# Altium integrated library Linear Technology Power Management Power Control.IntLib: 661 symbols (part 37 of 43)
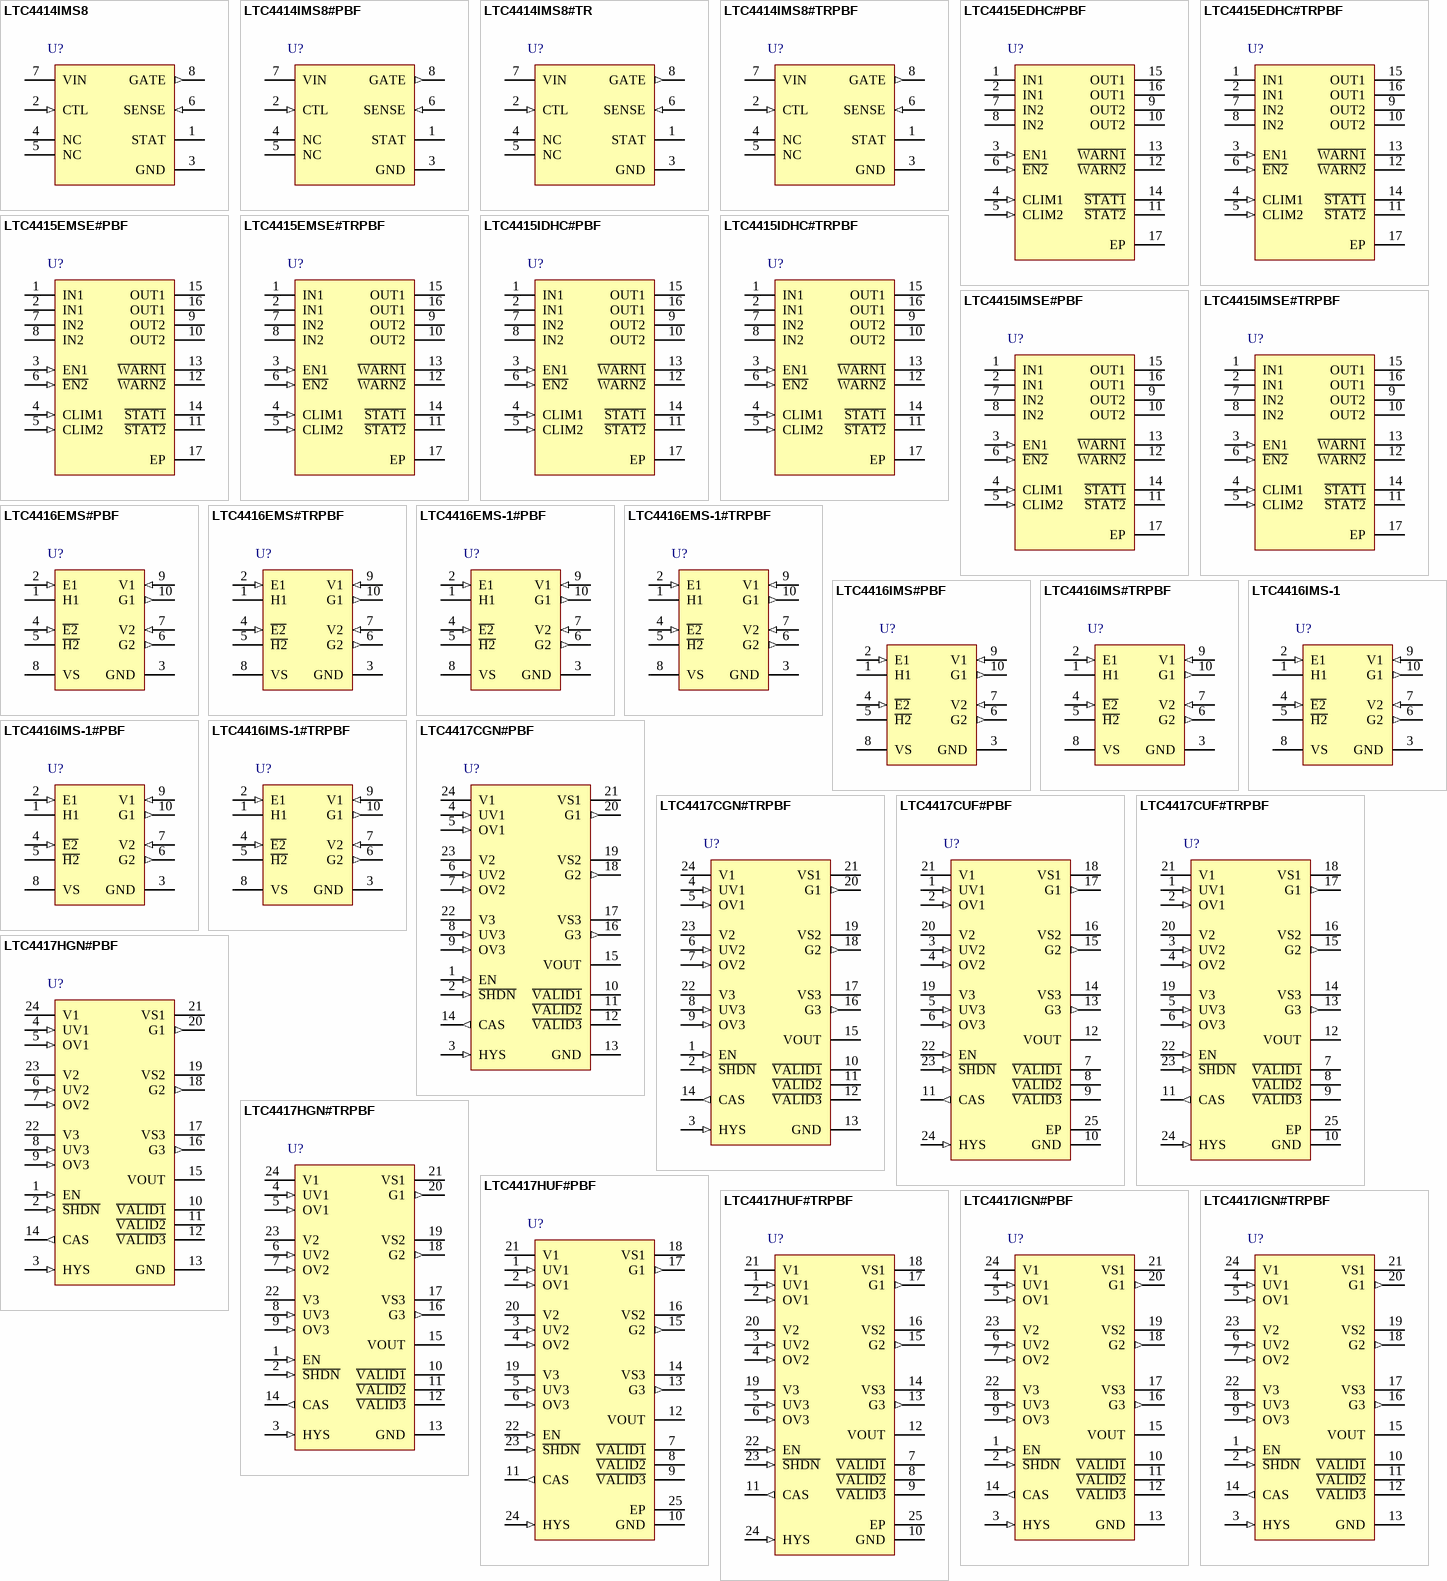
[diagram p55: symbols LTC4414IMS8 to LTC4417IGN#TRPBF]

## LTC4415IDHC#TRPBF
designator U?
Dual 4 A Ideal Diode with Adjustable Current Limit, Imon Output, Overcurrent Warning, Thermal Warning, 1.7 to 5.5 V Vin, 16-pin DFN (DHC-16_A), -40 to 125 degC, Pb-Free, Tape and Reel; Manufacturer: Linear Technology; PartNumber: LTC4415IDHC#TRPBF; Ideal Diode: Dual, Internal, P-Channel; DatasheetVersion: Rev. Ø; PackageVersion: Rev. Ø; PackageReference: DHC-16; PackageDescription: 16-Pin Plastic DFN, Body 5 x 3 mm, Pitch 0.5 mm; Supplier 1: Digi-Key; Supplier Part Number 1: LTC4415IDHC#TRPBF-ND; Supplier 2: Newark; Supplier Part Number 2: 78T3431; Packing: Tape and Reel; RoHS: TRUE; Mounting Technology: Surface Mount; Code_JEDEC: MO-229; ComponentLink1Description: Manufacturer URL; ComponentLink1URL: http://www.linear.com/; ComponentLink2Description: Datasheet; ComponentLink2URL: http://cds.linear.com/docs/en/datasheet/4415fa.pdf; ComponentLink3Description: Package Specification; ComponentLink3URL: http://cds.linear.com/docs/en/datasheet/4415fa.pdf
footprint LT-DHC-16_A_V (DHC-16_A, 16-Leads, Body 5x3mm, Pitch 0.5mm, Thermal Pad 4.4x1.65mm)
pins: 1 IN1 (power) "Diode 1 Anode and Positive Power Supply for LTC4415. Bypass IN1 with a ceramic capacitor of at least 4.7uF. Pins 1 and 2 are fused together on the package. These pins can be grounded when not used.", 2 IN1 (power) "Diode 1 Anode and Positive Power Supply for LTC4415. Bypass IN1 with a ceramic capacitor of at least 4.7uF. Pins 1 and 2 are fused together on the package. These pins can be grounded when not used.", 3 EN1 (in) "Enable Input for Diode 1. A high signal greater than VENTH enables Diode 1.", 4 CLIM1 (in) "Current Limit Adjust and Monitor Pin for Diode 1. Connect a resistor from CLIM1 to ground to set the current limit; the diode 1 current can then be monitored by measuring the voltage on CLIM1 pin. A fixed 6A internal current (See Datasheet)", 5 CLIM2 (in) "Current Limit Adjust and Monitor Pin for Diode 2. Connect a resistor from CLIM2 to ground to set the current limit; the diode 2 current can then be monitored by measuring the voltage on CLIM2 pin. A fixed 6A internal current (See Datasheet)", 6 ~{EN2} (in) "Enable Input for Diode 2. A low signal less than VENTH enables Diode 2.", 7 IN2 (power) "Diode 2 Anode and Positive Power Supply for LTC4415. Bypass IN2 with a ceramic capacitor of at least 4.7uF. Pins 7 and 8 are fused together on the package. These pins can be grounded when not used.", 8 IN2 (power) "Diode 2 Anode and Positive Power Supply for LTC4415. Bypass IN2 with a ceramic capacitor of at least 4.7uF. Pins 7 and 8 are fused together on the package. These pins can be grounded when not used.", 9 OUT2 (power) "Diode 2 Cathode and Output of LTC4415. Bypass OUT2 with a ceramic capacitor of at least 4.7uF. Pins 9 and 10 are fused together on the package. Leave these pins open when not used.", 10 OUT2 (power) "Diode 2 Cathode and Output of LTC4415. Bypass OUT2 with a ceramic capacitor of at least 4.7uF. Pins 9 and 10 are fused together on the package. Leave these pins open when not used.", 11 ~{STAT2} (hiz) "Status Indicator for Diode 2. Open-drain output pulls down during forward diode conduction. This pin can be left open or grounded when not used.", 12 ~{WARN2} (oc) "Overcurrent and Thermal Warning Indicator for Diode 2. Open-drain output pulls down when diode 2 current exceeds its current limit or die temperature is close to thermal shutdown.", 13 ~{WARN1} (oc) "Overcurrent and Thermal Warning Indicator for Diode 1. Open-drain output pulls down when diode 1 current exceeds its current limit or die temperature is close to thermal shutdown.", 14 ~{STAT1} (hiz) "Status Indicator for Diode 1. Open-drain output pulls down during forward diode conduction. This pin can be left open or grounded when not used.", 15 OUT1 (power) "Diode 1 Cathode and Output of LTC4415. Bypass OUT1 with a ceramic capacitor of at least 4.7uF. Pins 15 and 16 are fused together on the package. Leave these pins open when not used.", 16 OUT1 (power) "Diode 1 Cathode and Output of LTC4415. Bypass OUT1 with a ceramic capacitor of at least 4.7uF. Pins 15 and 16 are fused together on the package. Leave these pins open when not used.", 17 EP (power) "Device Ground. The exposed pad must be soldered to PCB ground to provide both electrical connection to ground and good thermal conductivity to PCB."

## LTC4415IMSE#PBF
designator U?
Dual 4 A Ideal Diode with Adjustable Current Limit, Imon Output, Overcurrent Warning, Thermal Warning, 1.7 to 5.5 V Vin, 16-pin SOP (MSE-16-EDP), -40 to 125 degC, Pb-Free; Manufacturer: Linear Technology; PartNumber: LTC4415IMSE#PBF; Ideal Diode: Dual, Internal, P-Channel; DatasheetVersion: Rev. Ø; PackageVersion: Rev. F, 05/2013; PackageReference: MSE-16; PackageDescription: 16-Pin Plastic MSOP, Exposed Die Pad, Body 4.039 x 3 mm, Pitch 0.5 mm; Supplier 1: Digi-Key; Supplier Part Number 1: LTC4415IMSE#PBF-ND; Supplier 2: Newark; Supplier Part Number 2: 78T3432; RoHS: TRUE; Mounting Technology: Surface Mount; ComponentLink1Description: Manufacturer URL; ComponentLink1URL: http://www.linear.com/; ComponentLink2Description: Datasheet; ComponentLink2URL: http://cds.linear.com/docs/en/datasheet/4415fa.pdf; ComponentLink3Description: Package Specification; ComponentLink3URL: http://cds.linear.com/docs/en/packaging/05081667_F_MSE16.pdf
footprint LT-MSE-16-EDP_N (SOP, 16-Leads, Body 4.1x3.1mm, Pitch 0.5mm, Thermal Pad 2.95x1.76mm, IPC Medium Density)
footprint LT-MSE-16-EDP_L (SOP, 16-Leads, Body 4.1x3.1mm, Pitch 0.5mm, Thermal Pad 2.95x1.76mm, IPC High Density)
footprint LT-MSE-16-EDP_M (SOP, 16-Leads, Body 4.1x3.1mm, Pitch 0.5mm, Thermal Pad 2.95x1.76mm, IPC Low Density)
pins: 1 IN1 (power) "Diode 1 Anode and Positive Power Supply for LTC4415. Bypass IN1 with a ceramic capacitor of at least 4.7uF. Pins 1 and 2 are fused together on the package. These pins can be grounded when not used.", 2 IN1 (power) "Diode 1 Anode and Positive Power Supply for LTC4415. Bypass IN1 with a ceramic capacitor of at least 4.7uF. Pins 1 and 2 are fused together on the package. These pins can be grounded when not used.", 3 EN1 (in) "Enable Input for Diode 1. A high signal greater than VENTH enables Diode 1.", 4 CLIM1 (in) "Current Limit Adjust and Monitor Pin for Diode 1. Connect a resistor from CLIM1 to ground to set the current limit; the diode 1 current can then be monitored by measuring the voltage on CLIM1 pin. A fixed 6A internal current (See Datasheet)", 5 CLIM2 (in) "Current Limit Adjust and Monitor Pin for Diode 2. Connect a resistor from CLIM2 to ground to set the current limit; the diode 2 current can then be monitored by measuring the voltage on CLIM2 pin. A fixed 6A internal current (See Datasheet)", 6 ~{EN2} (in) "Enable Input for Diode 2. A low signal less than VENTH enables Diode 2.", 7 IN2 (power) "Diode 2 Anode and Positive Power Supply for LTC4415. Bypass IN2 with a ceramic capacitor of at least 4.7uF. Pins 7 and 8 are fused together on the package. These pins can be grounded when not used.", 8 IN2 (power) "Diode 2 Anode and Positive Power Supply for LTC4415. Bypass IN2 with a ceramic capacitor of at least 4.7uF. Pins 7 and 8 are fused together on the package. These pins can be grounded when not used.", 9 OUT2 (power) "Diode 2 Cathode and Output of LTC4415. Bypass OUT2 with a ceramic capacitor of at least 4.7uF. Pins 9 and 10 are fused together on the package. Leave these pins open when not used.", 10 OUT2 (power) "Diode 2 Cathode and Output of LTC4415. Bypass OUT2 with a ceramic capacitor of at least 4.7uF. Pins 9 and 10 are fused together on the package. Leave these pins open when not used.", 11 ~{STAT2} (hiz) "Status Indicator for Diode 2. Open-drain output pulls down during forward diode conduction. This pin can be left open or grounded when not used.", 12 ~{WARN2} (oc) "Overcurrent and Thermal Warning Indicator for Diode 2. Open-drain output pulls down when diode 2 current exceeds its current limit or die temperature is close to thermal shutdown.", 13 ~{WARN1} (oc) "Overcurrent and Thermal Warning Indicator for Diode 1. Open-drain output pulls down when diode 1 current exceeds its current limit or die temperature is close to thermal shutdown.", 14 ~{STAT1} (hiz) "Status Indicator for Diode 1. Open-drain output pulls down during forward diode conduction. This pin can be left open or grounded when not used.", 15 OUT1 (power) "Diode 1 Cathode and Output of LTC4415. Bypass OUT1 with a ceramic capacitor of at least 4.7uF. Pins 15 and 16 are fused together on the package. Leave these pins open when not used.", 16 OUT1 (power) "Diode 1 Cathode and Output of LTC4415. Bypass OUT1 with a ceramic capacitor of at least 4.7uF. Pins 15 and 16 are fused together on the package. Leave these pins open when not used.", 17 EP (power) "Device Ground. The exposed pad must be soldered to PCB ground to provide both electrical connection to ground and good thermal conductivity to PCB."

## LTC4415IMSE#TRPBF
designator U?
Dual 4 A Ideal Diode with Adjustable Current Limit, Imon Output, Overcurrent Warning, Thermal Warning, 1.7 to 5.5 V Vin, 16-pin SOP (MSE-16-EDP), -40 to 125 degC, Pb-Free, Tape and Reel; Manufacturer: Linear Technology; PartNumber: LTC4415IMSE#TRPBF; Ideal Diode: Dual, Internal, P-Channel; DatasheetVersion: Rev. Ø; PackageVersion: Rev. F, 05/2013; PackageReference: MSE-16; PackageDescription: 16-Pin Plastic MSOP, Exposed Die Pad, Body 4.039 x 3 mm, Pitch 0.5 mm; Supplier 1: Digi-Key; Supplier Part Number 1: LTC4415IMSE#TRPBF-ND; Supplier 2: Newark; Supplier Part Number 2: 78T3433; Packing: Tape and Reel; RoHS: TRUE; Mounting Technology: Surface Mount; ComponentLink1Description: Manufacturer URL; ComponentLink1URL: http://www.linear.com/; ComponentLink2Description: Datasheet; ComponentLink2URL: http://cds.linear.com/docs/en/datasheet/4415fa.pdf; ComponentLink3Description: Package Specification; ComponentLink3URL: http://cds.linear.com/docs/en/packaging/05081667_F_MSE16.pdf
footprint LT-MSE-16-EDP_N (SOP, 16-Leads, Body 4.1x3.1mm, Pitch 0.5mm, Thermal Pad 2.95x1.76mm, IPC Medium Density)
footprint LT-MSE-16-EDP_L (SOP, 16-Leads, Body 4.1x3.1mm, Pitch 0.5mm, Thermal Pad 2.95x1.76mm, IPC High Density)
footprint LT-MSE-16-EDP_M (SOP, 16-Leads, Body 4.1x3.1mm, Pitch 0.5mm, Thermal Pad 2.95x1.76mm, IPC Low Density)
pins: 1 IN1 (power) "Diode 1 Anode and Positive Power Supply for LTC4415. Bypass IN1 with a ceramic capacitor of at least 4.7uF. Pins 1 and 2 are fused together on the package. These pins can be grounded when not used.", 2 IN1 (power) "Diode 1 Anode and Positive Power Supply for LTC4415. Bypass IN1 with a ceramic capacitor of at least 4.7uF. Pins 1 and 2 are fused together on the package. These pins can be grounded when not used.", 3 EN1 (in) "Enable Input for Diode 1. A high signal greater than VENTH enables Diode 1.", 4 CLIM1 (in) "Current Limit Adjust and Monitor Pin for Diode 1. Connect a resistor from CLIM1 to ground to set the current limit; the diode 1 current can then be monitored by measuring the voltage on CLIM1 pin. A fixed 6A internal current (See Datasheet)", 5 CLIM2 (in) "Current Limit Adjust and Monitor Pin for Diode 2. Connect a resistor from CLIM2 to ground to set the current limit; the diode 2 current can then be monitored by measuring the voltage on CLIM2 pin. A fixed 6A internal current (See Datasheet)", 6 ~{EN2} (in) "Enable Input for Diode 2. A low signal less than VENTH enables Diode 2.", 7 IN2 (power) "Diode 2 Anode and Positive Power Supply for LTC4415. Bypass IN2 with a ceramic capacitor of at least 4.7uF. Pins 7 and 8 are fused together on the package. These pins can be grounded when not used.", 8 IN2 (power) "Diode 2 Anode and Positive Power Supply for LTC4415. Bypass IN2 with a ceramic capacitor of at least 4.7uF. Pins 7 and 8 are fused together on the package. These pins can be grounded when not used.", 9 OUT2 (power) "Diode 2 Cathode and Output of LTC4415. Bypass OUT2 with a ceramic capacitor of at least 4.7uF. Pins 9 and 10 are fused together on the package. Leave these pins open when not used.", 10 OUT2 (power) "Diode 2 Cathode and Output of LTC4415. Bypass OUT2 with a ceramic capacitor of at least 4.7uF. Pins 9 and 10 are fused together on the package. Leave these pins open when not used.", 11 ~{STAT2} (hiz) "Status Indicator for Diode 2. Open-drain output pulls down during forward diode conduction. This pin can be left open or grounded when not used.", 12 ~{WARN2} (oc) "Overcurrent and Thermal Warning Indicator for Diode 2. Open-drain output pulls down when diode 2 current exceeds its current limit or die temperature is close to thermal shutdown.", 13 ~{WARN1} (oc) "Overcurrent and Thermal Warning Indicator for Diode 1. Open-drain output pulls down when diode 1 current exceeds its current limit or die temperature is close to thermal shutdown.", 14 ~{STAT1} (hiz) "Status Indicator for Diode 1. Open-drain output pulls down during forward diode conduction. This pin can be left open or grounded when not used.", 15 OUT1 (power) "Diode 1 Cathode and Output of LTC4415. Bypass OUT1 with a ceramic capacitor of at least 4.7uF. Pins 15 and 16 are fused together on the package. Leave these pins open when not used.", 16 OUT1 (power) "Diode 1 Cathode and Output of LTC4415. Bypass OUT1 with a ceramic capacitor of at least 4.7uF. Pins 15 and 16 are fused together on the package. Leave these pins open when not used.", 17 EP (power) "Device Ground. The exposed pad must be soldered to PCB ground to provide both electrical connection to ground and good thermal conductivity to PCB."

## LTC4416EMS#PBF
designator U?
Low Loss Dual PowerPath Controller for Large PFET, 3.6 to 36 V Vin, 10-pin SOP (MS-10), -40 to 85 degC, Pb-Free; Manufacturer: Linear Technology; PartNumber: LTC4416EMS#PBF; Ideal Diode: Dual, External, P-Channel; DatasheetVersion: Rev. A; PackageVersion: Rev. E, 06/2010; PackageReference: MS-10; PackageDescription: 10-Pin Plastic MSOP, Body 3 x 3 mm, Pitch 0.5 mm; Supplier 1: Digi-Key; Supplier Part Number 1: LTC4416EMS#PBF-ND; Supplier 2: Newark; Supplier Part Number 2: 56M9542; RoHS: TRUE; Mounting Technology: Surface Mount; ComponentLink1Description: Manufacturer URL; ComponentLink1URL: http://www.linear.com/; ComponentLink2Description: Datasheet; ComponentLink2URL: http://cds.linear.com/docs/en/datasheet/4416fa.pdf; ComponentLink3Description: Package Specification; ComponentLink3URL: http://cds.linear.com/docs/en/packaging/05081661_F_MS.pdf
footprint LT-MS-10_N (SOP, 10-Leads, Body 3.1x3.1mm, Pitch 0.5mm, IPC Medium Density)
footprint LT-MS-10_L (SOP, 10-Leads, Body 3.1x3.1mm, Pitch 0.5mm, IPC High Density)
footprint LT-MS-10_M (SOP, 10-Leads, Body 3.1x3.1mm, Pitch 0.5mm, IPC Low Density)
pins: 1 H1 (hiz) "Open-Drain Comparator Output of the E1 Pin. If E1 > VREF, the H1 pin will go high impedance, otherwise the pin will be grounded. The maximum voltage permitted on this pin is 7V. This pin provides support for setting up (See Datasheet)", 2 E1 (in) "LTC4416 Comparator Enable Input. A high signal greater than VREF will enable the V1 path. The ideal diode action will then determine if the V1 path should turn on by controlling any PFET(s) connected to the G1 pin. If the E1 (See Datasheet)", 3 GND (power) "Ground. This pin provides a power return path for all the internal circuits.", 4 ~{E2} (in) "LTC4416 Comparator Enable Input. A low signal less than VREF will enable the V2 path. The ideal diode action will then determine if the V2 path should turn on by controlling any PFET(s) connected to the G2 pin. If the E\2\ (See Datasheet)", 5 ~{H2} (hiz) "Open-Drain Comparator Output of the E\2\ Pin. If E2 > VREF, the H\2\ pin will go high impedance, otherwise the pin will be grounded. The maximum voltage permitted on this pin is 7V. This pin provides support for setting up (See Datasheet)", 6 G2 (out) "Second P-Channel MOSFET Power Switch Gate Drive Pin. This pin is directed by the second power controller to maintain a forward regulation voltage (VFR) of 25mV between the V2 and VS pins when V2 is greater than VS. When V2 (See Datasheet)", 7 V2 (in) "Second Input Supply Voltage. Supplies power to the second power controller and the band-gap reference. V2 is one of the two voltage sense inputs to the second internal power controller (the other input to the second internal (See Datasheet)", 8 VS (power) "Power Sense Input Pin. Supplies power to the internal circuitry of both the first and second power controller and the band-gap reference. This pin is also a voltage sense input to both internal analog controllers (the other (See Datasheet)", 9 V1 (in) "First Input Supply Voltage. Supplies power to the first power controller and the band-gap reference. V1 is one of the two voltage sense inputs to the first internal power controller (the other input to the first internal (See Datasheet)", 10 G1 (out) "First P-Channel MOSFET Power Switch Gate Drive Pin. This pin is directed by the first power controller to maintain a forward regulation voltage (VFR) of 25mV between the V1 and VS pins when V1 is greater than VS. When V1 is (See Datasheet)"

## LTC4416EMS#TRPBF
designator U?
Low Loss Dual PowerPath Controller for Large PFET, 3.6 to 36 V Vin, 10-pin SOP (MS-10), -40 to 85 degC, Pb-Free, Tape and Reel; Manufacturer: Linear Technology; PartNumber: LTC4416EMS#TRPBF; Ideal Diode: Dual, External, P-Channel; DatasheetVersion: Rev. A; PackageVersion: Rev. E, 06/2010; PackageReference: MS-10; PackageDescription: 10-Pin Plastic MSOP, Body 3 x 3 mm, Pitch 0.5 mm; Supplier 1: Digi-Key; Supplier Part Number 1: LTC4416EMS#TRPBF-ND; Packing: Tape and Reel; RoHS: TRUE; Mounting Technology: Surface Mount; ComponentLink1Description: Manufacturer URL; ComponentLink1URL: http://www.linear.com/; ComponentLink2Description: Datasheet; ComponentLink2URL: http://cds.linear.com/docs/en/datasheet/4416fa.pdf; ComponentLink3Description: Package Specification; ComponentLink3URL: http://cds.linear.com/docs/en/packaging/05081661_F_MS.pdf
footprint LT-MS-10_N (SOP, 10-Leads, Body 3.1x3.1mm, Pitch 0.5mm, IPC Medium Density)
footprint LT-MS-10_L (SOP, 10-Leads, Body 3.1x3.1mm, Pitch 0.5mm, IPC High Density)
footprint LT-MS-10_M (SOP, 10-Leads, Body 3.1x3.1mm, Pitch 0.5mm, IPC Low Density)
pins: 1 H1 (hiz) "Open-Drain Comparator Output of the E1 Pin. If E1 > VREF, the H1 pin will go high impedance, otherwise the pin will be grounded. The maximum voltage permitted on this pin is 7V. This pin provides support for setting up (See Datasheet)", 2 E1 (in) "LTC4416 Comparator Enable Input. A high signal greater than VREF will enable the V1 path. The ideal diode action will then determine if the V1 path should turn on by controlling any PFET(s) connected to the G1 pin. If the E1 (See Datasheet)", 3 GND (power) "Ground. This pin provides a power return path for all the internal circuits.", 4 ~{E2} (in) "LTC4416 Comparator Enable Input. A low signal less than VREF will enable the V2 path. The ideal diode action will then determine if the V2 path should turn on by controlling any PFET(s) connected to the G2 pin. If the E\2\ (See Datasheet)", 5 ~{H2} (hiz) "Open-Drain Comparator Output of the E\2\ Pin. If E2 > VREF, the H\2\ pin will go high impedance, otherwise the pin will be grounded. The maximum voltage permitted on this pin is 7V. This pin provides support for setting up (See Datasheet)", 6 G2 (out) "Second P-Channel MOSFET Power Switch Gate Drive Pin. This pin is directed by the second power controller to maintain a forward regulation voltage (VFR) of 25mV between the V2 and VS pins when V2 is greater than VS. When V2 (See Datasheet)", 7 V2 (in) "Second Input Supply Voltage. Supplies power to the second power controller and the band-gap reference. V2 is one of the two voltage sense inputs to the second internal power controller (the other input to the second internal (See Datasheet)", 8 VS (power) "Power Sense Input Pin. Supplies power to the internal circuitry of both the first and second power controller and the band-gap reference. This pin is also a voltage sense input to both internal analog controllers (the other (See Datasheet)", 9 V1 (in) "First Input Supply Voltage. Supplies power to the first power controller and the band-gap reference. V1 is one of the two voltage sense inputs to the first internal power controller (the other input to the first internal (See Datasheet)", 10 G1 (out) "First P-Channel MOSFET Power Switch Gate Drive Pin. This pin is directed by the first power controller to maintain a forward regulation voltage (VFR) of 25mV between the V1 and VS pins when V1 is greater than VS. When V1 is (See Datasheet)"

## LTC4416EMS-1#PBF
designator U?
Low Loss Dual PowerPath Controller for Large PFET, 3.6 to 36 V Vin, 10-pin SOP (MS-10), -40 to 85 degC, Pb-Free; Manufacturer: Linear Technology; PartNumber: LTC4416EMS-1#PBF; Ideal Diode: Dual, External, P-Channel; DatasheetVersion: Rev. A; PackageVersion: Rev. E, 06/2010; PackageReference: MS-10; PackageDescription: 10-Pin Plastic MSOP, Body 3 x 3 mm, Pitch 0.5 mm; Supplier 1: Digi-Key; Supplier Part Number 1: LTC4416EMS-1#PBF-ND; Supplier 2: Newark; Supplier Part Number 2: 56M9540; RoHS: TRUE; Mounting Technology: Surface Mount; ComponentLink1Description: Manufacturer URL; ComponentLink1URL: http://www.linear.com/; ComponentLink2Description: Datasheet; ComponentLink2URL: http://cds.linear.com/docs/en/datasheet/4416fa.pdf; ComponentLink3Description: Package Specification; ComponentLink3URL: http://cds.linear.com/docs/en/packaging/05081661_F_MS.pdf
footprint LT-MS-10_N (SOP, 10-Leads, Body 3.1x3.1mm, Pitch 0.5mm, IPC Medium Density)
footprint LT-MS-10_L (SOP, 10-Leads, Body 3.1x3.1mm, Pitch 0.5mm, IPC High Density)
footprint LT-MS-10_M (SOP, 10-Leads, Body 3.1x3.1mm, Pitch 0.5mm, IPC Low Density)
pins: 1 H1 (hiz) "Open-Drain Comparator Output of the E1 Pin. If E1 > VREF, the H1 pin will go high impedance, otherwise the pin will be grounded. The maximum voltage permitted on this pin is 7V. This pin provides support for setting up (See Datasheet)", 2 E1 (in) "LTC4416 Comparator Enable Input. A high signal greater than VREF will enable the V1 path. The ideal diode action will then determine if the V1 path should turn on by controlling any PFET(s) connected to the G1 pin. If the E1 (See Datasheet)", 3 GND (power) "Ground. This pin provides a power return path for all the internal circuits.", 4 ~{E2} (in) "LTC4416 Comparator Enable Input. A low signal less than VREF will enable the V2 path. The ideal diode action will then determine if the V2 path should turn on by controlling any PFET(s) connected to the G2 pin. If the E\2\ (See Datasheet)", 5 ~{H2} (hiz) "Open-Drain Comparator Output of the E\2\ Pin. If E2 > VREF, the H\2\ pin will go high impedance, otherwise the pin will be grounded. The maximum voltage permitted on this pin is 7V. This pin provides support for setting up (See Datasheet)", 6 G2 (out) "Second P-Channel MOSFET Power Switch Gate Drive Pin. This pin is directed by the second power controller to maintain a forward regulation voltage (VFR) of 25mV between the V2 and VS pins when V2 is greater than VS. When V2 (See Datasheet)", 7 V2 (in) "Second Input Supply Voltage. Supplies power to the second power controller and the band-gap reference. V2 is one of the two voltage sense inputs to the second internal power controller (the other input to the second internal (See Datasheet)", 8 VS (power) "Power Sense Input Pin. Supplies power to the internal circuitry of both the first and second power controller and the band-gap reference. This pin is also a voltage sense input to both internal analog controllers (the other (See Datasheet)", 9 V1 (in) "First Input Supply Voltage. Supplies power to the first power controller and the band-gap reference. V1 is one of the two voltage sense inputs to the first internal power controller (the other input to the first internal (See Datasheet)", 10 G1 (out) "First P-Channel MOSFET Power Switch Gate Drive Pin. This pin is directed by the first power controller to maintain a forward regulation voltage (VFR) of 25mV between the V1 and VS pins when V1 is greater than VS. When V1 is (See Datasheet)"

## LTC4416EMS-1#TRPBF
designator U?
Low Loss Dual PowerPath Controller for Large PFET, 3.6 to 36 V Vin, 10-pin SOP (MS-10), -40 to 85 degC, Pb-Free, Tape and Reel; Manufacturer: Linear Technology; PartNumber: LTC4416EMS-1#TRPBF; Ideal Diode: Dual, External, P-Channel; DatasheetVersion: Rev. A; PackageVersion: Rev. E, 06/2010; PackageReference: MS-10; PackageDescription: 10-Pin Plastic MSOP, Body 3 x 3 mm, Pitch 0.5 mm; Supplier 1: Digi-Key; Supplier Part Number 1: LTC4416EMS-1#TRPBF-ND; Supplier 2: Newark; Supplier Part Number 2: 56M9541; Packing: Tape and Reel; RoHS: TRUE; Mounting Technology: Surface Mount; ComponentLink1Description: Manufacturer URL; ComponentLink1URL: http://www.linear.com/; ComponentLink2Description: Datasheet; ComponentLink2URL: http://cds.linear.com/docs/en/datasheet/4416fa.pdf; ComponentLink3Description: Package Specification; ComponentLink3URL: http://cds.linear.com/docs/en/packaging/05081661_F_MS.pdf
footprint LT-MS-10_N (SOP, 10-Leads, Body 3.1x3.1mm, Pitch 0.5mm, IPC Medium Density)
footprint LT-MS-10_L (SOP, 10-Leads, Body 3.1x3.1mm, Pitch 0.5mm, IPC High Density)
footprint LT-MS-10_M (SOP, 10-Leads, Body 3.1x3.1mm, Pitch 0.5mm, IPC Low Density)
pins: 1 H1 (hiz) "Open-Drain Comparator Output of the E1 Pin. If E1 > VREF, the H1 pin will go high impedance, otherwise the pin will be grounded. The maximum voltage permitted on this pin is 7V. This pin provides support for setting up (See Datasheet)", 2 E1 (in) "LTC4416 Comparator Enable Input. A high signal greater than VREF will enable the V1 path. The ideal diode action will then determine if the V1 path should turn on by controlling any PFET(s) connected to the G1 pin. If the E1 (See Datasheet)", 3 GND (power) "Ground. This pin provides a power return path for all the internal circuits.", 4 ~{E2} (in) "LTC4416 Comparator Enable Input. A low signal less than VREF will enable the V2 path. The ideal diode action will then determine if the V2 path should turn on by controlling any PFET(s) connected to the G2 pin. If the E\2\ (See Datasheet)", 5 ~{H2} (hiz) "Open-Drain Comparator Output of the E\2\ Pin. If E2 > VREF, the H\2\ pin will go high impedance, otherwise the pin will be grounded. The maximum voltage permitted on this pin is 7V. This pin provides support for setting up (See Datasheet)", 6 G2 (out) "Second P-Channel MOSFET Power Switch Gate Drive Pin. This pin is directed by the second power controller to maintain a forward regulation voltage (VFR) of 25mV between the V2 and VS pins when V2 is greater than VS. When V2 (See Datasheet)", 7 V2 (in) "Second Input Supply Voltage. Supplies power to the second power controller and the band-gap reference. V2 is one of the two voltage sense inputs to the second internal power controller (the other input to the second internal (See Datasheet)", 8 VS (power) "Power Sense Input Pin. Supplies power to the internal circuitry of both the first and second power controller and the band-gap reference. This pin is also a voltage sense input to both internal analog controllers (the other (See Datasheet)", 9 V1 (in) "First Input Supply Voltage. Supplies power to the first power controller and the band-gap reference. V1 is one of the two voltage sense inputs to the first internal power controller (the other input to the first internal (See Datasheet)", 10 G1 (out) "First P-Channel MOSFET Power Switch Gate Drive Pin. This pin is directed by the first power controller to maintain a forward regulation voltage (VFR) of 25mV between the V1 and VS pins when V1 is greater than VS. When V1 is (See Datasheet)"

## LTC4416IMS#PBF
designator U?
Low Loss Dual PowerPath Controller for Large PFET, 3.6 to 36 V Vin, 10-pin SOP (MS-10), -40 to 125 degC, Pb-Free; Manufacturer: Linear Technology; PartNumber: LTC4416IMS#PBF; Ideal Diode: Dual, External, P-Channel; DatasheetVersion: Rev. A; PackageVersion: Rev. E, 06/2010; PackageReference: MS-10; PackageDescription: 10-Pin Plastic MSOP, Body 3 x 3 mm, Pitch 0.5 mm; Supplier 1: Digi-Key; Supplier Part Number 1: LTC4416IMS#PBF-ND; Supplier 2: Farnell; Supplier Part Number 2: 2295302; Supplier 3: Newark; Supplier Part Number 3: 56M9546; RoHS: TRUE; Mounting Technology: Surface Mount; ComponentLink1Description: Manufacturer URL; ComponentLink1URL: http://www.linear.com/; ComponentLink2Description: Datasheet; ComponentLink2URL: http://cds.linear.com/docs/en/datasheet/4416fa.pdf; ComponentLink3Description: Package Specification; ComponentLink3URL: http://cds.linear.com/docs/en/packaging/05081661_F_MS.pdf
footprint LT-MS-10_N (SOP, 10-Leads, Body 3.1x3.1mm, Pitch 0.5mm, IPC Medium Density)
footprint LT-MS-10_L (SOP, 10-Leads, Body 3.1x3.1mm, Pitch 0.5mm, IPC High Density)
footprint LT-MS-10_M (SOP, 10-Leads, Body 3.1x3.1mm, Pitch 0.5mm, IPC Low Density)
pins: 1 H1 (hiz) "Open-Drain Comparator Output of the E1 Pin. If E1 > VREF, the H1 pin will go high impedance, otherwise the pin will be grounded. The maximum voltage permitted on this pin is 7V. This pin provides support for setting up (See Datasheet)", 2 E1 (in) "LTC4416 Comparator Enable Input. A high signal greater than VREF will enable the V1 path. The ideal diode action will then determine if the V1 path should turn on by controlling any PFET(s) connected to the G1 pin. If the E1 (See Datasheet)", 3 GND (power) "Ground. This pin provides a power return path for all the internal circuits.", 4 ~{E2} (in) "LTC4416 Comparator Enable Input. A low signal less than VREF will enable the V2 path. The ideal diode action will then determine if the V2 path should turn on by controlling any PFET(s) connected to the G2 pin. If the E\2\ (See Datasheet)", 5 ~{H2} (hiz) "Open-Drain Comparator Output of the E\2\ Pin. If E2 > VREF, the H\2\ pin will go high impedance, otherwise the pin will be grounded. The maximum voltage permitted on this pin is 7V. This pin provides support for setting up (See Datasheet)", 6 G2 (out) "Second P-Channel MOSFET Power Switch Gate Drive Pin. This pin is directed by the second power controller to maintain a forward regulation voltage (VFR) of 25mV between the V2 and VS pins when V2 is greater than VS. When V2 (See Datasheet)", 7 V2 (in) "Second Input Supply Voltage. Supplies power to the second power controller and the band-gap reference. V2 is one of the two voltage sense inputs to the second internal power controller (the other input to the second internal (See Datasheet)", 8 VS (power) "Power Sense Input Pin. Supplies power to the internal circuitry of both the first and second power controller and the band-gap reference. This pin is also a voltage sense input to both internal analog controllers (the other (See Datasheet)", 9 V1 (in) "First Input Supply Voltage. Supplies power to the first power controller and the band-gap reference. V1 is one of the two voltage sense inputs to the first internal power controller (the other input to the first internal (See Datasheet)", 10 G1 (out) "First P-Channel MOSFET Power Switch Gate Drive Pin. This pin is directed by the first power controller to maintain a forward regulation voltage (VFR) of 25mV between the V1 and VS pins when V1 is greater than VS. When V1 is (See Datasheet)"

## LTC4416IMS#TRPBF
designator U?
Low Loss Dual PowerPath Controller for Large PFET, 3.6 to 36 V Vin, 10-pin SOP (MS-10), -40 to 125 degC, Pb-Free, Tape and Reel; Manufacturer: Linear Technology; PartNumber: LTC4416IMS#TRPBF; Ideal Diode: Dual, External, P-Channel; DatasheetVersion: Rev. A; PackageVersion: Rev. E, 06/2010; PackageReference: MS-10; PackageDescription: 10-Pin Plastic MSOP, Body 3 x 3 mm, Pitch 0.5 mm; Supplier 1: Digi-Key; Supplier Part Number 1: LTC4416IMS#TRPBF-ND; Supplier 2: Newark; Supplier Part Number 2: 56M9547; Packing: Tape and Reel; RoHS: TRUE; Mounting Technology: Surface Mount; ComponentLink1Description: Manufacturer URL; ComponentLink1URL: http://www.linear.com/; ComponentLink2Description: Datasheet; ComponentLink2URL: http://cds.linear.com/docs/en/datasheet/4416fa.pdf; ComponentLink3Description: Package Specification; ComponentLink3URL: http://cds.linear.com/docs/en/packaging/05081661_F_MS.pdf
footprint LT-MS-10_N (SOP, 10-Leads, Body 3.1x3.1mm, Pitch 0.5mm, IPC Medium Density)
footprint LT-MS-10_L (SOP, 10-Leads, Body 3.1x3.1mm, Pitch 0.5mm, IPC High Density)
footprint LT-MS-10_M (SOP, 10-Leads, Body 3.1x3.1mm, Pitch 0.5mm, IPC Low Density)
pins: 1 H1 (hiz) "Open-Drain Comparator Output of the E1 Pin. If E1 > VREF, the H1 pin will go high impedance, otherwise the pin will be grounded. The maximum voltage permitted on this pin is 7V. This pin provides support for setting up (See Datasheet)", 2 E1 (in) "LTC4416 Comparator Enable Input. A high signal greater than VREF will enable the V1 path. The ideal diode action will then determine if the V1 path should turn on by controlling any PFET(s) connected to the G1 pin. If the E1 (See Datasheet)", 3 GND (power) "Ground. This pin provides a power return path for all the internal circuits.", 4 ~{E2} (in) "LTC4416 Comparator Enable Input. A low signal less than VREF will enable the V2 path. The ideal diode action will then determine if the V2 path should turn on by controlling any PFET(s) connected to the G2 pin. If the E\2\ (See Datasheet)", 5 ~{H2} (hiz) "Open-Drain Comparator Output of the E\2\ Pin. If E2 > VREF, the H\2\ pin will go high impedance, otherwise the pin will be grounded. The maximum voltage permitted on this pin is 7V. This pin provides support for setting up (See Datasheet)", 6 G2 (out) "Second P-Channel MOSFET Power Switch Gate Drive Pin. This pin is directed by the second power controller to maintain a forward regulation voltage (VFR) of 25mV between the V2 and VS pins when V2 is greater than VS. When V2 (See Datasheet)", 7 V2 (in) "Second Input Supply Voltage. Supplies power to the second power controller and the band-gap reference. V2 is one of the two voltage sense inputs to the second internal power controller (the other input to the second internal (See Datasheet)", 8 VS (power) "Power Sense Input Pin. Supplies power to the internal circuitry of both the first and second power controller and the band-gap reference. This pin is also a voltage sense input to both internal analog controllers (the other (See Datasheet)", 9 V1 (in) "First Input Supply Voltage. Supplies power to the first power controller and the band-gap reference. V1 is one of the two voltage sense inputs to the first internal power controller (the other input to the first internal (See Datasheet)", 10 G1 (out) "First P-Channel MOSFET Power Switch Gate Drive Pin. This pin is directed by the first power controller to maintain a forward regulation voltage (VFR) of 25mV between the V1 and VS pins when V1 is greater than VS. When V1 is (See Datasheet)"

## LTC4416IMS-1
designator U?
Low Loss Dual PowerPath Controller for Large PFET, 3.6 to 36 V Vin, 10-pin SOP (MS-10), -40 to 125 degC; Manufacturer: Linear Technology; PartNumber: LTC4416IMS-1; Ideal Diode: Dual, External, P-Channel; DatasheetVersion: Rev. A; PackageVersion: Rev. E, 06/2010; PackageReference: MS-10; PackageDescription: 10-Pin Plastic MSOP, Body 3 x 3 mm, Pitch 0.5 mm; RoHS: FALSE; Mounting Technology: Surface Mount; ComponentLink1Description: Manufacturer URL; ComponentLink1URL: http://www.linear.com/; ComponentLink2Description: Datasheet; ComponentLink2URL: http://cds.linear.com/docs/en/datasheet/4416fa.pdf; ComponentLink3Description: Package Specification; ComponentLink3URL: http://cds.linear.com/docs/en/packaging/05081661_F_MS.pdf
footprint LT-MS-10_N (SOP, 10-Leads, Body 3.1x3.1mm, Pitch 0.5mm, IPC Medium Density)
footprint LT-MS-10_L (SOP, 10-Leads, Body 3.1x3.1mm, Pitch 0.5mm, IPC High Density)
footprint LT-MS-10_M (SOP, 10-Leads, Body 3.1x3.1mm, Pitch 0.5mm, IPC Low Density)
pins: 1 H1 (hiz) "Open-Drain Comparator Output of the E1 Pin. If E1 > VREF, the H1 pin will go high impedance, otherwise the pin will be grounded. The maximum voltage permitted on this pin is 7V. This pin provides support for setting up (See Datasheet)", 2 E1 (in) "LTC4416 Comparator Enable Input. A high signal greater than VREF will enable the V1 path. The ideal diode action will then determine if the V1 path should turn on by controlling any PFET(s) connected to the G1 pin. If the E1 (See Datasheet)", 3 GND (power) "Ground. This pin provides a power return path for all the internal circuits.", 4 ~{E2} (in) "LTC4416 Comparator Enable Input. A low signal less than VREF will enable the V2 path. The ideal diode action will then determine if the V2 path should turn on by controlling any PFET(s) connected to the G2 pin. If the E\2\ (See Datasheet)", 5 ~{H2} (hiz) "Open-Drain Comparator Output of the E\2\ Pin. If E2 > VREF, the H\2\ pin will go high impedance, otherwise the pin will be grounded. The maximum voltage permitted on this pin is 7V. This pin provides support for setting up (See Datasheet)", 6 G2 (out) "Second P-Channel MOSFET Power Switch Gate Drive Pin. This pin is directed by the second power controller to maintain a forward regulation voltage (VFR) of 25mV between the V2 and VS pins when V2 is greater than VS. When V2 (See Datasheet)", 7 V2 (in) "Second Input Supply Voltage. Supplies power to the second power controller and the band-gap reference. V2 is one of the two voltage sense inputs to the second internal power controller (the other input to the second internal (See Datasheet)", 8 VS (power) "Power Sense Input Pin. Supplies power to the internal circuitry of both the first and second power controller and the band-gap reference. This pin is also a voltage sense input to both internal analog controllers (the other (See Datasheet)", 9 V1 (in) "First Input Supply Voltage. Supplies power to the first power controller and the band-gap reference. V1 is one of the two voltage sense inputs to the first internal power controller (the other input to the first internal (See Datasheet)", 10 G1 (out) "First P-Channel MOSFET Power Switch Gate Drive Pin. This pin is directed by the first power controller to maintain a forward regulation voltage (VFR) of 25mV between the V1 and VS pins when V1 is greater than VS. When V1 is (See Datasheet)"

## LTC4416IMS-1#PBF
designator U?
Low Loss Dual PowerPath Controller for Large PFET, 3.6 to 36 V Vin, 10-pin SOP (MS-10), -40 to 125 degC, Pb-Free; Manufacturer: Linear Technology; PartNumber: LTC4416IMS-1#PBF; Ideal Diode: Dual, External, P-Channel; DatasheetVersion: Rev. A; PackageVersion: Rev. E, 06/2010; PackageReference: MS-10; PackageDescription: 10-Pin Plastic MSOP, Body 3 x 3 mm, Pitch 0.5 mm; Supplier 1: Digi-Key; Supplier Part Number 1: LTC4416IMS-1#PBF-ND; Supplier 2: Newark; Supplier Part Number 2: 56M9544; RoHS: TRUE; Mounting Technology: Surface Mount; ComponentLink1Description: Manufacturer URL; ComponentLink1URL: http://www.linear.com/; ComponentLink2Description: Datasheet; ComponentLink2URL: http://cds.linear.com/docs/en/datasheet/4416fa.pdf; ComponentLink3Description: Package Specification; ComponentLink3URL: http://cds.linear.com/docs/en/packaging/05081661_F_MS.pdf
footprint LT-MS-10_N (SOP, 10-Leads, Body 3.1x3.1mm, Pitch 0.5mm, IPC Medium Density)
footprint LT-MS-10_L (SOP, 10-Leads, Body 3.1x3.1mm, Pitch 0.5mm, IPC High Density)
footprint LT-MS-10_M (SOP, 10-Leads, Body 3.1x3.1mm, Pitch 0.5mm, IPC Low Density)
pins: 1 H1 (hiz) "Open-Drain Comparator Output of the E1 Pin. If E1 > VREF, the H1 pin will go high impedance, otherwise the pin will be grounded. The maximum voltage permitted on this pin is 7V. This pin provides support for setting up (See Datasheet)", 2 E1 (in) "LTC4416 Comparator Enable Input. A high signal greater than VREF will enable the V1 path. The ideal diode action will then determine if the V1 path should turn on by controlling any PFET(s) connected to the G1 pin. If the E1 (See Datasheet)", 3 GND (power) "Ground. This pin provides a power return path for all the internal circuits.", 4 ~{E2} (in) "LTC4416 Comparator Enable Input. A low signal less than VREF will enable the V2 path. The ideal diode action will then determine if the V2 path should turn on by controlling any PFET(s) connected to the G2 pin. If the E\2\ (See Datasheet)", 5 ~{H2} (hiz) "Open-Drain Comparator Output of the E\2\ Pin. If E2 > VREF, the H\2\ pin will go high impedance, otherwise the pin will be grounded. The maximum voltage permitted on this pin is 7V. This pin provides support for setting up (See Datasheet)", 6 G2 (out) "Second P-Channel MOSFET Power Switch Gate Drive Pin. This pin is directed by the second power controller to maintain a forward regulation voltage (VFR) of 25mV between the V2 and VS pins when V2 is greater than VS. When V2 (See Datasheet)", 7 V2 (in) "Second Input Supply Voltage. Supplies power to the second power controller and the band-gap reference. V2 is one of the two voltage sense inputs to the second internal power controller (the other input to the second internal (See Datasheet)", 8 VS (power) "Power Sense Input Pin. Supplies power to the internal circuitry of both the first and second power controller and the band-gap reference. This pin is also a voltage sense input to both internal analog controllers (the other (See Datasheet)", 9 V1 (in) "First Input Supply Voltage. Supplies power to the first power controller and the band-gap reference. V1 is one of the two voltage sense inputs to the first internal power controller (the other input to the first internal (See Datasheet)", 10 G1 (out) "First P-Channel MOSFET Power Switch Gate Drive Pin. This pin is directed by the first power controller to maintain a forward regulation voltage (VFR) of 25mV between the V1 and VS pins when V1 is greater than VS. When V1 is (See Datasheet)"

## LTC4416IMS-1#TRPBF
designator U?
Low Loss Dual PowerPath Controller for Large PFET, 3.6 to 36 V Vin, 10-pin SOP (MS-10), -40 to 125 degC, Pb-Free, Tape and Reel; Manufacturer: Linear Technology; PartNumber: LTC4416IMS-1#TRPBF; Ideal Diode: Dual, External, P-Channel; DatasheetVersion: Rev. A; PackageVersion: Rev. E, 06/2010; PackageReference: MS-10; PackageDescription: 10-Pin Plastic MSOP, Body 3 x 3 mm, Pitch 0.5 mm; Supplier 1: Digi-Key; Supplier Part Number 1: LTC4416IMS-1#TRPBF-ND; Supplier 2: Newark; Supplier Part Number 2: 56M9545; Packing: Tape and Reel; RoHS: TRUE; Mounting Technology: Surface Mount; ComponentLink1Description: Manufacturer URL; ComponentLink1URL: http://www.linear.com/; ComponentLink2Description: Datasheet; ComponentLink2URL: http://cds.linear.com/docs/en/datasheet/4416fa.pdf; ComponentLink3Description: Package Specification; ComponentLink3URL: http://cds.linear.com/docs/en/packaging/05081661_F_MS.pdf
footprint LT-MS-10_N (SOP, 10-Leads, Body 3.1x3.1mm, Pitch 0.5mm, IPC Medium Density)
footprint LT-MS-10_L (SOP, 10-Leads, Body 3.1x3.1mm, Pitch 0.5mm, IPC High Density)
footprint LT-MS-10_M (SOP, 10-Leads, Body 3.1x3.1mm, Pitch 0.5mm, IPC Low Density)
pins: 1 H1 (hiz) "Open-Drain Comparator Output of the E1 Pin. If E1 > VREF, the H1 pin will go high impedance, otherwise the pin will be grounded. The maximum voltage permitted on this pin is 7V. This pin provides support for setting up (See Datasheet)", 2 E1 (in) "LTC4416 Comparator Enable Input. A high signal greater than VREF will enable the V1 path. The ideal diode action will then determine if the V1 path should turn on by controlling any PFET(s) connected to the G1 pin. If the E1 (See Datasheet)", 3 GND (power) "Ground. This pin provides a power return path for all the internal circuits.", 4 ~{E2} (in) "LTC4416 Comparator Enable Input. A low signal less than VREF will enable the V2 path. The ideal diode action will then determine if the V2 path should turn on by controlling any PFET(s) connected to the G2 pin. If the E\2\ (See Datasheet)", 5 ~{H2} (hiz) "Open-Drain Comparator Output of the E\2\ Pin. If E2 > VREF, the H\2\ pin will go high impedance, otherwise the pin will be grounded. The maximum voltage permitted on this pin is 7V. This pin provides support for setting up (See Datasheet)", 6 G2 (out) "Second P-Channel MOSFET Power Switch Gate Drive Pin. This pin is directed by the second power controller to maintain a forward regulation voltage (VFR) of 25mV between the V2 and VS pins when V2 is greater than VS. When V2 (See Datasheet)", 7 V2 (in) "Second Input Supply Voltage. Supplies power to the second power controller and the band-gap reference. V2 is one of the two voltage sense inputs to the second internal power controller (the other input to the second internal (See Datasheet)", 8 VS (power) "Power Sense Input Pin. Supplies power to the internal circuitry of both the first and second power controller and the band-gap reference. This pin is also a voltage sense input to both internal analog controllers (the other (See Datasheet)", 9 V1 (in) "First Input Supply Voltage. Supplies power to the first power controller and the band-gap reference. V1 is one of the two voltage sense inputs to the first internal power controller (the other input to the first internal (See Datasheet)", 10 G1 (out) "First P-Channel MOSFET Power Switch Gate Drive Pin. This pin is directed by the first power controller to maintain a forward regulation voltage (VFR) of 25mV between the V1 and VS pins when V1 is greater than VS. When V1 is (See Datasheet)"